# EAGLE library part PA1558 (library pulse)
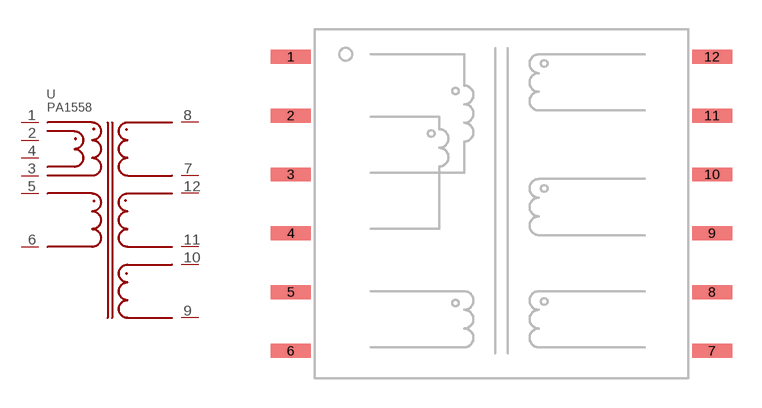
[diagram p1: symbol with the pads of PA1558; footprint PA1558]

Designator prefix -

## PA1558  [PA1558]
1  1
2  2
3  3
4  4
5  5
6  6
7  7
8  8
9  9
10  10
11  11
12  12

## Footprint PA1558 (pad centres in mm)
smd 2.032 x 0.711: 1 -10.732,7.493; 2 -10.732,4.496; 3 -10.732,1.499; 4 -10.732,-1.499; 5 -10.732,-4.496; 6 -10.732,-7.493; 7 10.732,-7.493; 8 10.732,-4.496; 9 10.732,-1.499; 10 10.732,1.499; 11 10.732,4.496; 12 10.732,7.493